# Altium footprint library SparkFun-Hardware.PCBLIB: 15 footprints
Each footprint in its own frame and in the unit in brackets; x right, y up, seen from the top. Pads: shape width x height; smd on the part's side, far side on the other; paste and mask are expansions set on the pad; w line width, h text height; cw(c..) or ccw(c..) is an arc to the next point about the centre after c.
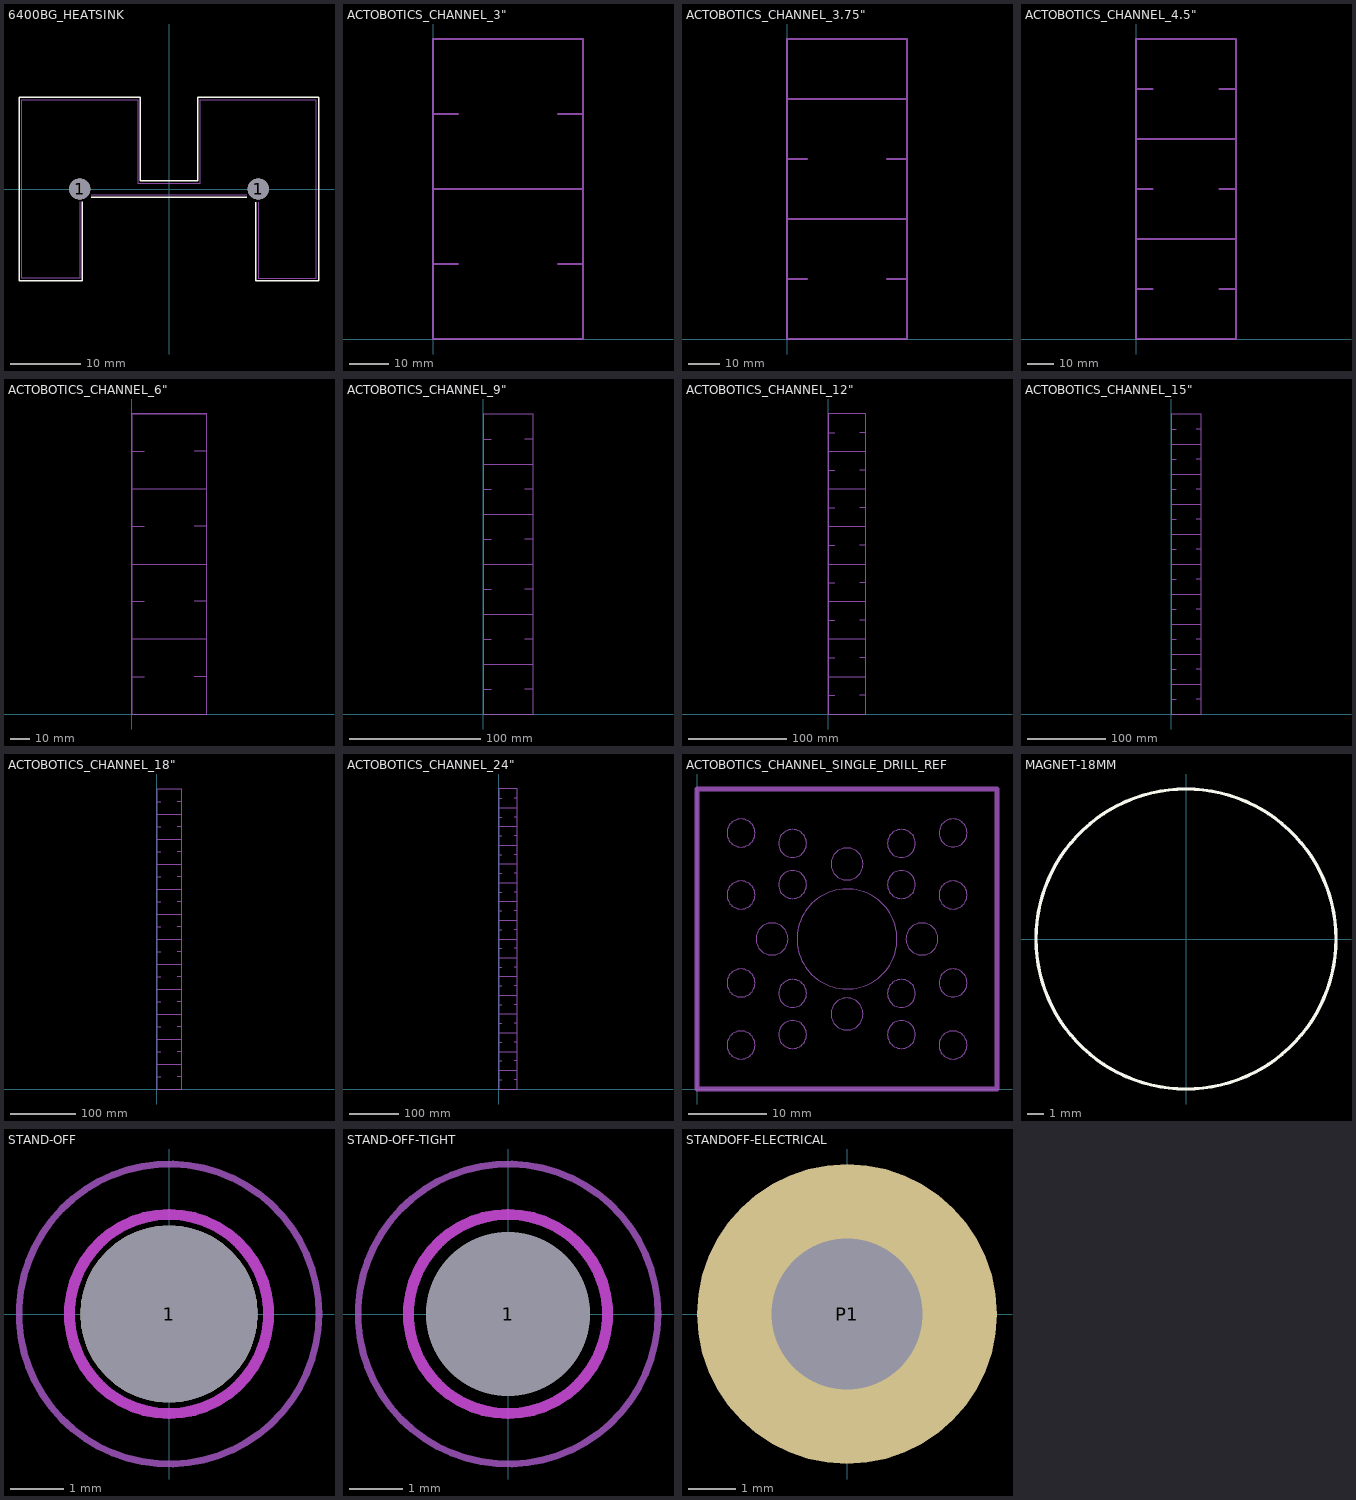
[diagram p0: the footprints below, top view; thin cyan lines are the x and y axes]

## 6400BG_HEATSINK [mil]
pads (2):
  round 118 hole 118: 1(-500,0) 1(500,0)
Top Overlay:
  lines w8: -485,-70 -485,-515 -840,-515 -840,515 -160,515 -160,46 160,46 160,515 840,515 840,-515 485,-515 485,-75 ; -435,-46 435,-46
Mechanical 16:
  lines w5: -500,-70 -500,-500 -825,-500 -825,500 -175,500 -175,31 175,31 175,500 825,500 825,-500 500,-500 500,-75 ; -435,-31 435,-31

## ACTOBOTICS_CHANNEL_3" [mil]
Mechanical 16:
  lines w24: 250,750 0,750 ; 250,2250 0,2250 ; 1250,750 1500,750 ; 1250,2250 1500,2250 ; 0,750 0,1500 ; 0,750 0,0 1500,0 1500,750 ; 0,1500 0,2250 ; 0,1500 1500,1500 ; 0,2250 0,3000 ; 0,3000 1500,3000 ; 0,3000 1500,3000 ; 1500,750 1500,1500 ; 1500,1500 1500,2250 ; 1500,2250 1500,3000
  text "3" at 750,750 h215.9

## ACTOBOTICS_CHANNEL_3.75" [mil]
Mechanical 16:
  lines w24: 250,750 0,750 ; 250,2250 0,2250 ; 250,3750 0,3750 ; 1250,750 1500,750 ; 1250,2250 1500,2250 ; 1250,3750 1500,3750 ; 0,750 0,1500 ; 0,750 0,0 1500,0 1500,750 ; 0,1500 0,2250 ; 0,1500 1500,1500 ; 0,2250 0,3000 ; 0,3000 0,3750 ; 0,3000 1500,3000 ; 0,3750 1500,3750 ; 1500,750 1500,1500 ; 1500,1500 1500,2250 ; 1500,2250 1500,3000 ; 1500,3000 1500,3750
  text "3.75" at 750,750 h215.9

## ACTOBOTICS_CHANNEL_4.5" [mil]
Mechanical 16:
  lines w24: 0,3750 250,3750 ; 250,750 0,750 ; 250,2250 0,2250 ; 1250,750 1500,750 ; 1250,2250 1500,2250 ; 1250,3750 1500,3750 ; 0,750 0,1500 ; 0,750 0,0 1500,0 1500,750 ; 0,1500 0,2250 ; 0,1500 1500,1500 ; 0,2250 0,3000 ; 0,3000 0,4500 1500,4500 1500,3000 ; 0,3000 1500,3000 ; 1500,750 1500,1500 ; 1500,1500 1500,2250 ; 1500,2250 1500,3000
  text "4.5" at 750,750 h215.9

## ACTOBOTICS_CHANNEL_6" [mil]
Mechanical 16:
  lines w24: 0,3750 250,3750 ; 0,5250 250,5250 ; 250,750 0,750 ; 250,2250 0,2250 ; 1250,750 1500,750 ; 1250,2250 1500,2250 ; 1250,3750 1500,3750 ; 1250,5250 1500,5250 ; 0,750 0,1500 ; 0,750 0,0 1500,0 1500,750 ; 0,1500 0,2250 ; 0,1500 1500,1500 ; 0,2250 0,3000 ; 0,3000 0,4500 ; 0,3000 1500,3000 ; 0,4500 0,6000 ; 0,4500 1500,4500 ; 0,6000 1500,6000 ; 0,6000 1500,6000 ; 1500,750 1500,1500 ; 1500,1500 1500,2250 ; 1500,2250 1500,3000 ; 1500,3000 1500,4500 ; 1500,4500 1500,6000
  text "6" at 750,750 h215.9

## ACTOBOTICS_CHANNEL_9" [mil]
Mechanical 16:
  lines w24: 0,3750 250,3750 ; 0,5250 250,5250 ; 0,6750 250,6750 ; 0,8250 250,8250 ; 250,750 0,750 ; 250,2250 0,2250 ; 1250,750 1500,750 ; 1250,2250 1500,2250 ; 1250,3750 1500,3750 ; 1250,5250 1500,5250 ; 1250,6750 1500,6750 ; 1250,8250 1500,8250 ; 0,750 0,1500 ; 0,750 0,0 1500,0 1500,750 ; 0,1500 0,2250 ; 0,1500 1500,1500 ; 0,2250 0,3000 ; 0,3000 0,4500 ; 0,3000 1500,3000 ; 0,4500 0,6000 ; 0,4500 1500,4500 ; 0,6000 0,7500 ; 0,6000 1500,6000 ; 0,7500 0,9000 1500,9000 1500,7500 ; 0,7500 1500,7500 ; 1500,750 1500,1500 ; 1500,1500 1500,2250 ; 1500,2250 1500,3000 ; 1500,3000 1500,4500 ; 1500,4500 1500,6000 ; 1500,6000 1500,7500
  text "9" at 750,750 h215.9

## ACTOBOTICS_CHANNEL_12" [mil]
Mechanical 16:
  lines w24: 0,3750 250,3750 ; 0,5250 250,5250 ; 0,6750 250,6750 ; 0,8250 250,8250 ; 0,9000 1500,9000 ; 0,9750 250,9750 ; 0,10500 1500,10500 ; 0,11250 250,11250 ; 250,750 0,750 ; 250,2250 0,2250 ; 1250,750 1500,750 ; 1250,2250 1500,2250 ; 1250,3750 1500,3750 ; 1250,5250 1500,5250 ; 1250,6750 1500,6750 ; 1250,8250 1500,8250 ; 1250,9750 1500,9750 ; 1250,11250 1500,11250 ; 0,750 0,1500 ; 0,750 0,0 1500,0 1500,750 ; 0,1500 0,2250 ; 0,1500 1500,1500 ; 0,2250 0,3000 ; 0,3000 0,4500 ; 0,3000 1500,3000 ; 0,4500 0,6000 ; 0,4500 1500,4500 ; 0,6000 0,7500 ; 0,6000 1500,6000 ; 0,7500 0,12000 1500,12000 1500,7500 ; 0,7500 1500,7500 ; 1500,750 1500,1500 ; 1500,1500 1500,2250 ; 1500,2250 1500,3000 ; 1500,3000 1500,4500 ; 1500,4500 1500,6000 ; 1500,6000 1500,7500
  text "12" at 750,750 h215.9

## ACTOBOTICS_CHANNEL_15" [mil]
Mechanical 16:
  lines w24: 0,3750 250,3750 ; 0,5250 250,5250 ; 0,6750 250,6750 ; 0,8250 250,8250 ; 0,9000 1500,9000 ; 0,9750 250,9750 ; 0,10500 1500,10500 ; 0,11250 250,11250 ; 0,12750 250,12750 ; 0,14250 250,14250 ; 250,750 0,750 ; 250,2250 0,2250 ; 1250,750 1500,750 ; 1250,2250 1500,2250 ; 1250,3750 1500,3750 ; 1250,5250 1500,5250 ; 1250,6750 1500,6750 ; 1250,8250 1500,8250 ; 1250,9750 1500,9750 ; 1250,11250 1500,11250 ; 1250,12750 1500,12750 ; 1250,14250 1500,14250 ; 0,750 0,1500 ; 0,750 0,0 1500,0 1500,750 ; 0,1500 0,2250 ; 0,1500 1500,1500 ; 0,2250 0,3000 ; 0,3000 0,4500 ; 0,3000 1500,3000 ; 0,4500 0,6000 ; 0,4500 1500,4500 ; 0,6000 0,7500 ; 0,6000 1500,6000 ; 0,7500 0,12000 ; 0,7500 1500,7500 ; 0,12000 0,13500 ; 0,12000 1500,12000 ; 0,13500 0,15000 1500,15000 1500,13500 ; 0,13500 1500,13500 ; 1500,750 1500,1500 ; 1500,1500 1500,2250 ; 1500,2250 1500,3000 ; 1500,3000 1500,4500 ; 1500,4500 1500,6000 ; 1500,6000 1500,7500 ; 1500,7500 1500,12000 ; 1500,12000 1500,13500
  text "15" at 750,750 h215.9

## ACTOBOTICS_CHANNEL_18" [mil]
Mechanical 16:
  lines w24: 0,3750 250,3750 ; 0,5250 250,5250 ; 0,6750 250,6750 ; 0,8250 250,8250 ; 0,9000 1500,9000 ; 0,9750 250,9750 ; 0,10500 1500,10500 ; 0,11250 250,11250 ; 0,12750 250,12750 ; 0,14250 250,14250 ; 250,750 0,750 ; 250,2250 0,2250 ; 250,15750 0,15750 ; 250,17250 0,17250 ; 1250,750 1500,750 ; 1250,2250 1500,2250 ; 1250,3750 1500,3750 ; 1250,5250 1500,5250 ; 1250,6750 1500,6750 ; 1250,8250 1500,8250 ; 1250,9750 1500,9750 ; 1250,11250 1500,11250 ; 1250,12750 1500,12750 ; 1250,14250 1500,14250 ; 1250,15750 1500,15750 ; 1250,17250 1500,17250 ; 0,750 0,1500 ; 0,750 0,0 1500,0 1500,750 ; 0,1500 0,2250 ; 0,1500 1500,1500 ; 0,2250 0,3000 ; 0,3000 0,4500 ; 0,3000 1500,3000 ; 0,4500 0,6000 ; 0,4500 1500,4500 ; 0,6000 0,7500 ; 0,6000 1500,6000 ; 0,7500 0,12000 ; 0,7500 1500,7500 ; 0,12000 0,13500 ; 0,12000 1500,12000 ; 0,13500 0,15000 ; 0,13500 1500,13500 ; 0,15000 0,15750 ; 0,15000 1500,15000 ; 0,15750 0,16500 ; 0,16500 0,17250 ; 0,16500 1500,16500 ; 0,17250 0,18000 1500,18000 1500,17250 ; 1500,750 1500,1500 ; 1500,1500 1500,2250 ; 1500,2250 1500,3000 ; 1500,3000 1500,4500 ; 1500,4500 1500,6000 ; 1500,6000 1500,7500 ; 1500,7500 1500,12000 ; 1500,12000 1500,13500 ; 1500,13500 1500,15000 ; 1500,15000 1500,15750 ; 1500,15750 1500,16500 ; 1500,16500 1500,17250
  text "18" at 750,750 h215.9

## ACTOBOTICS_CHANNEL_24" [mil]
Mechanical 16:
  lines w24: 0,3750 250,3750 ; 0,5250 250,5250 ; 0,6750 250,6750 ; 0,8250 250,8250 ; 0,9000 1500,9000 ; 0,9750 250,9750 ; 0,10500 1500,10500 ; 0,11250 250,11250 ; 0,12750 250,12750 ; 0,14250 250,14250 ; 0,18000 1500,18000 ; 0,18750 250,18750 ; 0,19500 1500,19500 ; 0,20250 250,20250 ; 0,21000 1500,21000 ; 0,21750 250,21750 ; 0,22500 1500,22500 ; 0,23250 250,23250 ; 250,750 0,750 ; 250,2250 0,2250 ; 250,15750 0,15750 ; 250,17250 0,17250 ; 1250,750 1500,750 ; 1250,2250 1500,2250 ; 1250,3750 1500,3750 ; 1250,5250 1500,5250 ; 1250,6750 1500,6750 ; 1250,8250 1500,8250 ; 1250,9750 1500,9750 ; 1250,11250 1500,11250 ; 1250,12750 1500,12750 ; 1250,14250 1500,14250 ; 1250,15750 1500,15750 ; 1250,17250 1500,17250 ; 1250,18750 1500,18750 ; 1250,20250 1500,20250 ; 1250,21750 1500,21750 ; 1250,23250 1500,23250 ; 0,750 0,1500 ; 0,750 0,0 1500,0 1500,750 ; 0,1500 0,2250 ; 0,1500 1500,1500 ; 0,2250 0,3000 ; 0,3000 0,4500 ; 0,3000 1500,3000 ; 0,4500 0,6000 ; 0,4500 1500,4500 ; 0,6000 0,7500 ; 0,6000 1500,6000 ; 0,7500 0,12000 ; 0,7500 1500,7500 ; 0,12000 0,13500 ; 0,12000 1500,12000 ; 0,13500 0,15000 ; 0,13500 1500,13500 ; 0,15000 0,15750 ; 0,15000 1500,15000 ; 0,15750 0,16500 ; 0,16500 0,17250 ; 0,16500 1500,16500 ; 0,17250 0,24000 1500,24000 1500,17250 ; 1500,750 1500,1500 ; 1500,1500 1500,2250 ; 1500,2250 1500,3000 ; 1500,3000 1500,4500 ; 1500,4500 1500,6000 ; 1500,6000 1500,7500 ; 1500,7500 1500,12000 ; 1500,12000 1500,13500 ; 1500,13500 1500,15000 ; 1500,15000 1500,15750 ; 1500,15750 1500,16500 ; 1500,16500 1500,17250
  text "24" at 750,750 h215.9

## ACTOBOTICS_CHANNEL_SINGLE_DRILL_REF [mil]
Mechanical 16:
  circle w1: c220,220 r70
  circle w1: c1022.25,1022.25 r70
  circle w1: c220,1280 r70
  circle w1: c1280,220 r70
  circle w1: c1280.35,1280.35 r70
  circle w1: c477.75,1022.25 r70
  circle w1: c477.75,477.75 r70
  circle w1: c1022.25,477.75 r70
  circle w1: c750,750 r250
  circle w1: c220,970 r70
  circle w1: c1280,970 r70
  circle w1: c477.75,1227.75 r70
  circle w1: c1022.25,1227.75 r70
  circle w1: c750,1125 r80
  circle w1: c750,375 r80
  circle w1: c1125,750 r80
  circle w1: c375,750 r80
  circle w1: c1022.25,272.25 r70
  circle w1: c220,530 r70
  circle w1: c1280.35,530.35 r70
  circle w1: c477.75,272.25 r70
  circle w1: c220,220 r70
  circle w1: c1022.25,1022.25 r70
  circle w1: c220,1280 r70
  circle w1: c1280,220 r70
  circle w1: c1280.35,1280.35 r70
  circle w1: c477.75,1022.25 r70
  circle w1: c477.75,477.75 r70
  circle w1: c1022.25,477.75 r70
  circle w1: c750,750 r250
  circle w1: c750,375 r80
  circle w1: c220,970 r70
  circle w1: c1280,970 r70
  circle w1: c477.75,1227.75 r70
  circle w1: c1022.25,1227.75 r70
  circle w1: c750,1125 r80
  circle w1: c1022.25,1022.25 r70
  circle w1: c220,1280 r70
  circle w1: c1280.35,1280.35 r70
  circle w1: c477.75,1022.25 r70
  circle w1: c220,970 r70
  circle w1: c1280,970 r70
  circle w1: c477.75,1227.75 r70
  circle w1: c1022.25,1227.75 r70
  circle w1: c750,1125 r80
  lines w24: 0,0 0,1500 1500,1500 1500,0 0,0
  text "0.5\"" at 750,750 h42.5
  text "0.14\"" at 477.75,1227.75 h20.4
  text "0.14\"" at 1022.25,1227.75 h20.4
  text "0.14\"" at 1280.35,1280.35 h20.4
  text "0.14\"" at 1280,970 h20.4
  text "0.14\"" at 1022.25,1022.25 h20.4
  text "0.14\"" at 1280.35,530.35 h20.4
  text "0.14\"" at 1022.25,477.75 h20.4
  text "0.14\"" at 1280,220 h20.4
  text "0.14\"" at 1022.25,272.25 h20.4
  text "0.14\"" at 220,970 h20.4
  text "0.14\"" at 477.75,1022.25 h20.4
  text "0.14\"" at 220,530 h20.4
  text "0.14\"" at 477.75,477.75 h20.4
  text "0.14\"" at 477.75,272.25 h20.4
  text "0.14\"" at 220,220 h20.4
  text "0.14\"" at 220,1280 h20.4
  text "0.16\"" at 750,1125 h20.4
  text "0.16\"" at 1125,750 h20.4
  text "0.16\"" at 375,750 h20.4
  text "0.16\"" at 750,375 h20.4

## MAGNET-18MM [mil]
Top Overlay:
  circle w8: c0,0 r354.33

## STAND-OFF [mil]
pads (1):
  round 130 hole 130: 1(0,0)
Mechanical 8 keep-out:
  lines w8: 0,-73 ccw(c0,0) 0,73 ccw(c0,0) 0,-73
Mechanical 9 keep-out:
  lines w8: 0,-73 ccw(c0,0) 0,73 ccw(c0,0) 0,-73
Mechanical 27:
  circle w5: c0,0 r110

## STAND-OFF-TIGHT [mil]
pads (1):
  round 120 hole 120: 1(0,0)
Mechanical 8 keep-out:
  lines w8: 0,-73 ccw(c0,0) 0,73 ccw(c0,0) 0,-73
Mechanical 9 keep-out:
  lines w8: 0,-73 ccw(c0,0) 0,73 ccw(c0,0) 0,-73
Mechanical 27:
  circle w5: c0,0 r110

## STANDOFF-ELECTRICAL [mil]
pads (1):
  round 250 hole 125.98: P1(0,0)